# Altium footprint library AMPHENOL_ACJC10AH.PcbLib: 1 footprints
Each footprint in its own frame and in the unit in brackets; x right, y up, seen from the top. Pads: shape width x height; smd on the part's side, far side on the other; paste and mask are expansions set on the pad; w line width, h text height; cw(c..) or ccw(c..) is an arc to the next point about the centre after c.
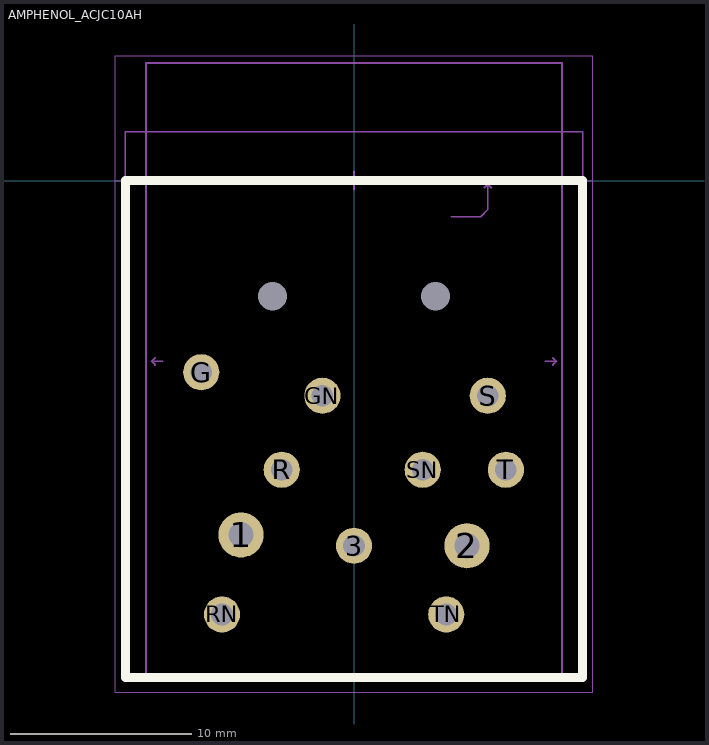
[diagram p0: the footprint, top view; thin cyan lines are the x and y axes]

## AMPHENOL_ACJC10AH [mm] "AMPHENOL_ACJC10AH"
height 29.2
pads (13):
  round 0 hole 1.6 unplated mask+0.05: 0(-4.5,-6.4) 0(4.5,-6.4)
  round 2.5 hole 1.4 mask+0.05: 1(-6.25,-19.6) 2(6.25,-20.2)
  round 2 hole 1.2 mask+0.05: 3(0,-20.2) G(-8.45,-10.6) GN(-1.75,-11.9) R(-4,-16) RN(-7.3,-24) S(7.4,-11.9) SN(3.8,-16) T(8.4,-16) TN(5.1,-24)
Top Overlay:
  lines w0.5: -12.65,-27.5 -12.65,0 12.65,0 12.65,-27.5 -12.65,-27.5
Mechanical 13:
  lines w0.1: -11,-10.2 -11.2,-10 ; -11,-9.8 -11.2,-10 ; -10.6,-10 -11.2,-10 ; 10.6,-10 11.2,-10 ; 11,-10.2 11.2,-10 ; 11,-9.8 11.2,-10 ; -11.5,-27.5 11.5,-27.5 ; -11.5,-27.5 -11.5,2.7 ; -11.5,-27.5 -12.65,-27.5 -12.65,2.7 -11.5,2.7 ; -11.5,2.7 -11.5,6.5 11.5,6.5 11.5,2.7 ; -11.5,2.7 11.5,2.7 ; 11.5,-27.5 11.5,2.7 ; 11.5,-27.5 12.65,-27.5 12.65,2.7 11.5,2.7
  text "Latch Clearance" at -5.339,4.1 h1
  text "Adjacent Connector Clearance" at -10.341,-10.357 h1
Mechanical 15:
  lines w0.05: -13.2,0 -13.2,-28.3 13.2,-28.3 13.2,0 ; -13.2,0 -13.2,6.9 13.2,6.9 13.2,0 ; -13.2,0 13.2,0
  lines w0.1: -0.5,0 0.5,0 ; 0,-0.5 0,0.5 ; 5.4,-2 7,-2 ; 7.2,-0.4 7.4,-0.2 ; 7.6,-0.4 7.4,-0.2 ; 7,-2 ccw(c7,-2) 7,-2 ; 7,-2 7.4,-1.6 7.4,-0.2
  text "Edge of Board" at -4.894,-2.333 h1
3D body "AMPHENOL_ACJC10AH.stp": height 29.18, standoff -3.52, extent -12.492,-27.993 12.8,6.5